# Altium schematic symbol library CAP-NON-POLAR.SchLib: 1 symbol
Pins are listed as number, name and electrical type; pins without a type are passive.

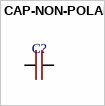
[diagram p0: symbol CAP-NON-POLAR]

## CAP-NON-POLAR
designator C?
footprint CAP-0402
footprint CAP-0201
footprint CAP-0603
footprint CAP-0805
footprint CAP-1206
pins: 1, 2